# Altium schematic symbol library 865090340001.SchLib: 1 symbol
Pins are listed as number, name and electrical type; pins without a type are passive.

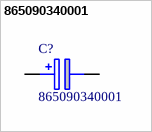
[diagram p0: symbol 865090340001]

## 865090340001
designator C?
Wurth Elektronik 4.7F 16 V dc Aluminium Electrolytic Capacitor, WCAP-ASLU Series 1000h 5.5 (Dia.) x 3.85mm; Geometry.Height: 5.5mm; Manufacturer_Name: Wurth Elektronik; Manufacturer_Part_Number: 865090340001; RS Part Number: *; RS Price/Stock: *; Arrow Part Number: 865090340001; Arrow Price/Stock: *; Datasheet Link: http://uk.rs-online.com/web/p/products/8387942
footprint CAPAE430X550N
pins: 1 +, 2 -